# EAGLE library part AMP-AUDIO-LM386 (library e202var-receiver)
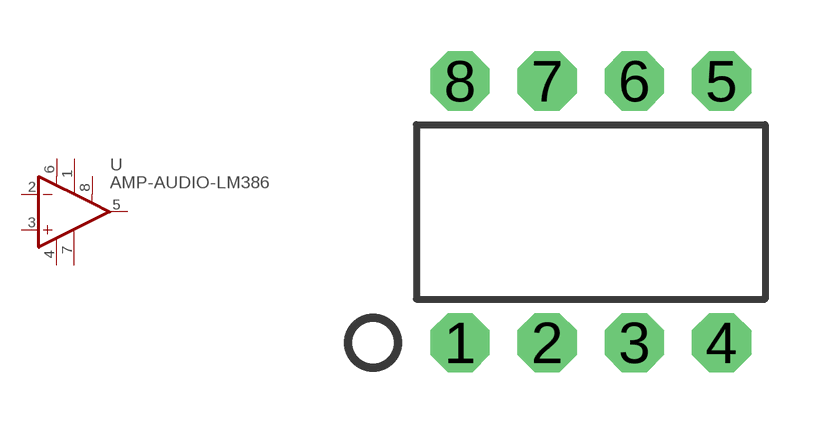
[diagram p0: symbol with the pads of DIP-08; footprint DIP-08]

Designator prefix U

## AMP-AUDIO-LM386  [DIP-08]
1  GAIN
2  -IN  in
3  +IN  in
4  V-  pwr
5  OUT  out
6  V+  pwr
7  BP
8  GAIN

## Footprint DIP-08 (pad centres in mm)
drill 0.813 pad 1.727 octagon: 1 -3.81,-3.81; 2 -1.27,-3.81; 3 1.27,-3.81; 4 3.81,-3.81; 5 3.81,3.81; 6 1.27,3.81; 7 -1.27,3.81; 8 -3.81,3.81